# Altium footprint library RPS_ARMOR_PCB_2022_V1.0.PcbLib: 13 footprints
Each footprint in its own frame and in the unit in brackets; x right, y up, seen from the top. Pads: shape width x height; smd on the part's side, far side on the other; paste and mask are expansions set on the pad; w line width, h text height; cw(c..) or ccw(c..) is an arc to the next point about the centre after c.
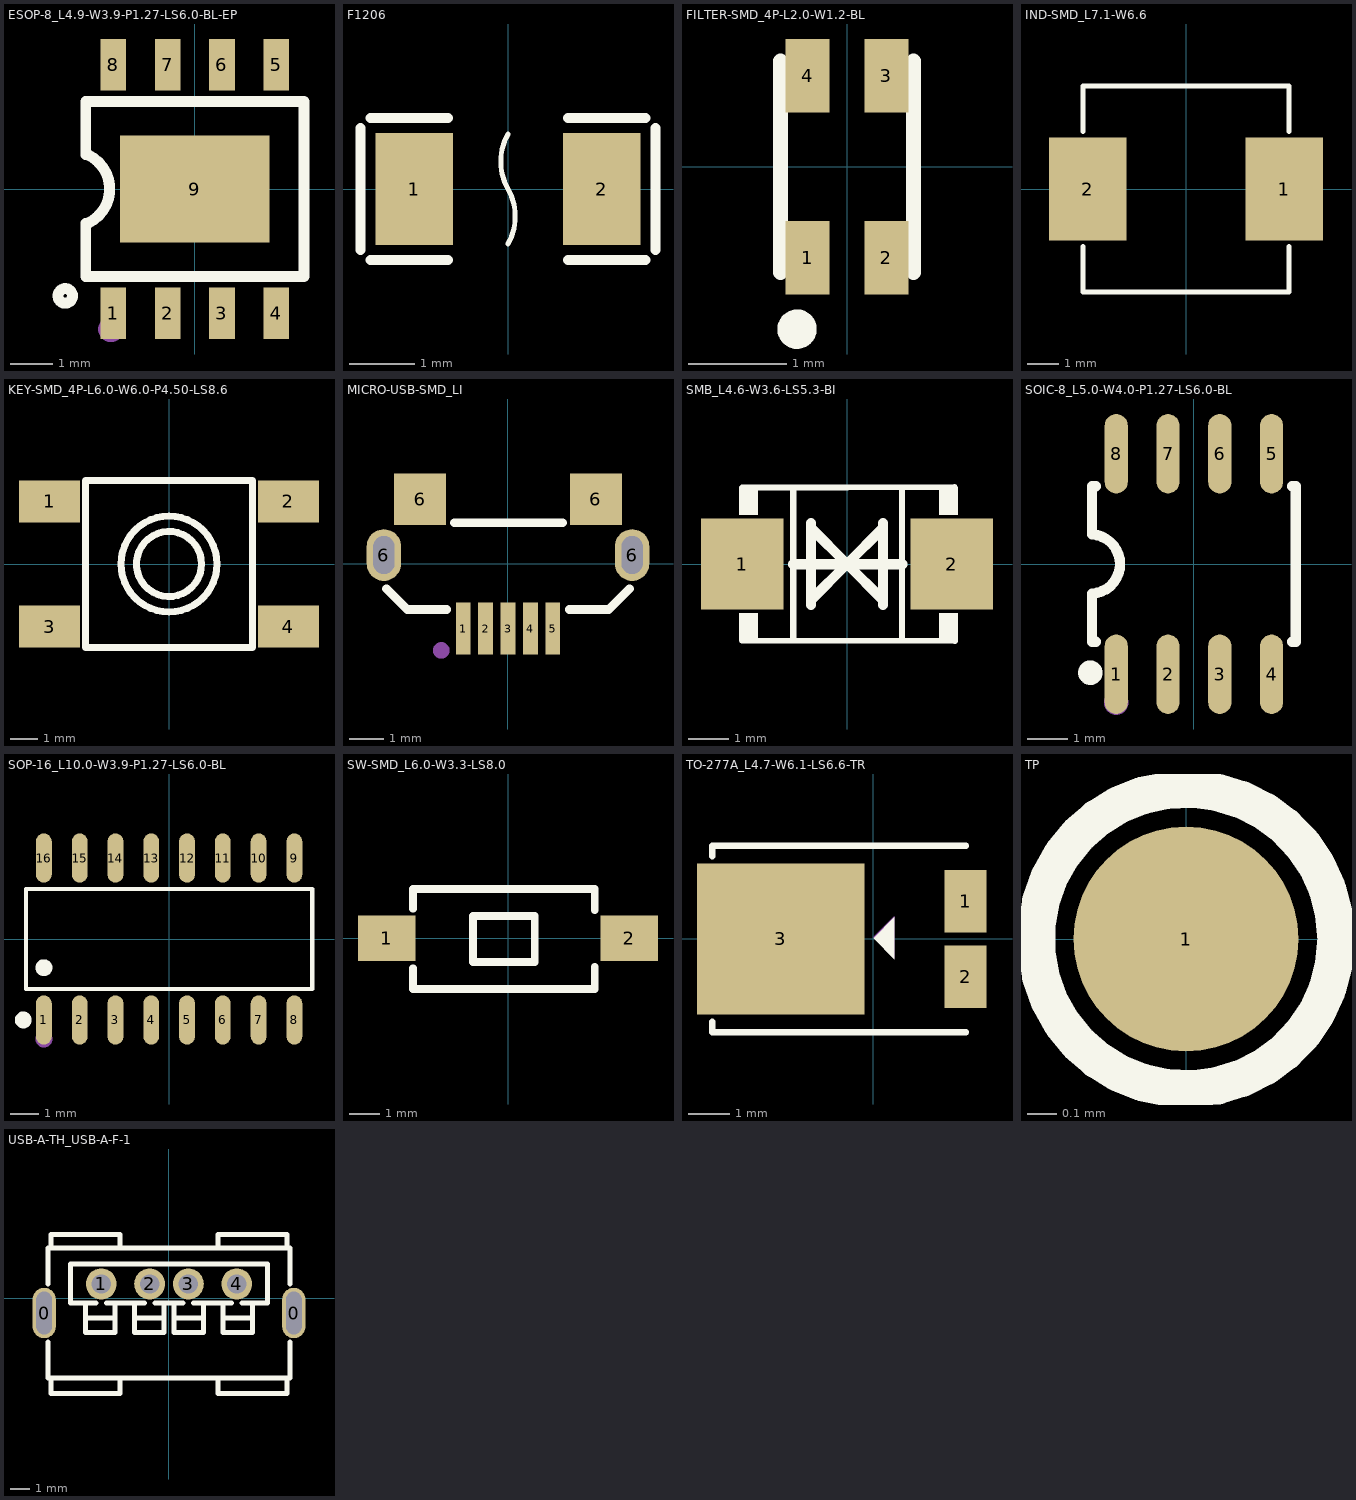
[diagram p0: the footprints below, top view; thin cyan lines are the x and y axes]

## ESOP-8_L4.9-W3.9-P1.27-LS6.0-BL-EP [mm]
pads (9):
  rect 0.6x1.2 smd: 1(-1.905,-2.908) 2(-0.635,-2.908) 3(0.635,-2.908) 4(1.905,-2.908) 5(1.905,2.908) 6(0.635,2.908) 7(-0.635,2.908) 8(-1.905,2.908)
  rect 3.5x2.5 smd: 9(0,0)
Top Overlay:
  circle w0.254: c-3.03,-2.5 r0.17
  lines w0.254: -2.55,-0.8 -2.55,-2.05 2.55,-2.05 2.55,2.05 -2.55,2.05 -2.55,0.8 ; -2.5,-0.8 ccw(c-2.875,0) -2.5,0.8
Mechanical 15:
  circle w0.3: c-1.96,-3.28 r0.15

## F1206 [mm]
pads (2):
  rect 1.19x1.728 smd: 1(-1.445,0) 2(1.445,0)
Top Overlay:
  lines w0.076: 0,-0.845 ccw(c-0.732,-0.422) 0,0 cw(c0.732,0.422) 0,0.845
  lines w0.152: -2.269,-0.94 -2.269,0.94 ; -2.116,-1.093 -0.926,-1.093 ; -2.116,1.093 -0.926,1.093 ; 0.926,-1.093 2.116,-1.093 ; 0.926,1.093 2.116,1.093 ; 2.269,-0.94 2.269,0.94

## FILTER-SMD_4P-L2.0-W1.2-BL [mm]
pads (4):
  rect 0.448x0.75 smd: 1(-0.4,-0.925) 2(0.4,-0.925) 3(0.4,0.925) 4(-0.4,0.925)
Top Overlay:
  circle w0.2: c-0.508,-1.651 r0.1
  lines w0.152: -0.676,-1.076 -0.676,1.076 ; 0.676,-1.076 0.676,1.076

## IND-SMD_L7.1-W6.6 [mm]
pads (2):
  rect 2.474x3.32 smd: 1(3.153,0) 2(-3.153,0)
Top Overlay:
  lines w0.152: -3.302,-1.84 -3.302,-3.302 3.302,-3.302 3.302,-1.84 ; -3.302,1.84 -3.302,3.302 3.302,3.302 3.302,1.84

## KEY-SMD_4P-L6.0-W6.0-P4.50-LS8.6 [mm]
pads (4):
  rect 2.2x1.5 smd: 1(-4.3,2.25) 2(4.3,2.25) 3(-4.3,-2.25) 4(4.3,-2.25)
Top Overlay:
  circle w0.254: c0,0 r1.171
  circle w0.254: c0,0 r1.727
  lines w0.254: -3,-3 -3,3 3,3 3,-3 -3,-3

## MICRO-USB-SMD_LI [mm]
pads (9):
  rect 0.43x1.51 smd: 1(-1.3,-1.877) 2(-0.65,-1.877) 3(0,-1.877) 4(0.65,-1.877) 5(1.3,-1.877)
  oval 1x1.5 hole 0.61 slot 1.1 at 90 deg: 6(-3.6,0.258) 6(3.6,0.258)
  rect 1.5x1.5 smd: 6(-2.55,1.873) 6(2.55,1.878)
Top Overlay:
  lines w0.254: -3.522,-0.719 -2.921,-1.32 -1.781,-1.32 ; -1.559,1.197 1.578,1.197 ; 1.781,-1.32 2.921,-1.32 3.522,-0.719
Top Paste:
  region: 1.8,2.628 3.3,2.628 3.3,1.128 1.8,1.128
  region: -3.3,2.623 -1.8,2.623 -1.8,1.123 -3.3,1.123
  region: 1.05,-1.123 1.55,-1.123 1.55,-2.632 1.05,-2.632
  region: 0.4,-1.123 0.9,-1.123 0.9,-2.632 0.4,-2.632
  region: -0.25,-1.123 0.25,-1.123 0.25,-2.632 -0.25,-2.632
  region: -0.9,-1.123 -0.4,-1.123 -0.4,-2.632 -0.9,-2.632
  region: -1.55,-1.123 -1.05,-1.123 -1.05,-2.632 -1.55,-2.632
  region: 3.1,0.507 3.101,0.606 3.177,0.789 3.318,0.928 3.501,1.004 3.699,1.004 3.882,0.928 4.023,0.789 4.099,0.606 4.1,0.507 4.1,0.007 4.099,-0.092 4.023,-0.274 3.882,-0.414 3.699,-0.489 3.501,-0.489 3.318,-0.414 3.177,-0.274 3.101,-0.092 3.1,0.007
  region: -4.1,0.507 -4.099,0.606 -4.022,0.789 -3.882,0.928 -3.699,1.004 -3.501,1.004 -3.318,0.928 -3.177,0.789 -3.101,0.606 -3.1,0.507 -3.1,0.007 -3.101,-0.092 -3.177,-0.274 -3.318,-0.414 -3.501,-0.489 -3.699,-0.489 -3.882,-0.414 -4.022,-0.274 -4.099,-0.092 -4.1,0.007
Mechanical 15:
  circle w0.24: c-1.935,-2.508 r0.12

## SMB_L4.6-W3.6-LS5.3-BI [mm]
pads (2):
  rect 2.047x2.241 smd: 1(-2.591,0) 2(2.591,0)
Top Overlay:
  region: -2.667,-1.905 -2.667,-1.215 -2.21,-1.215 -2.21,-1.905
  region: -2.667,1.905 -2.667,1.215 -2.21,1.215 -2.21,1.905
  region: 2.286,1.905 2.286,1.215 2.743,1.215 2.743,1.905
  region: 2.286,-1.905 2.286,-1.215 2.743,-1.215 2.743,-1.905
  lines w0.152: -2.599,-1.89 2.667,-1.905 ; -2.591,1.887 2.663,1.905 ; -1.331,-1.886 -1.331,1.886 ; 1.364,-1.886 1.364,1.886
  lines w0.254: -1.331,-0.008 1.364,-0.008 ; 0,0 -0.889,0.889 -0.889,1.016 -0.889,-1.016 -0.889,-0.889 0,0 ; 0,0 0.889,-0.889 0.889,-1.016 0.889,1.016 0.889,0.889 0,0

## SOIC-8_L5.0-W4.0-P1.27-LS6.0-BL [mil]
pads (8):
  oval 22.38x76.78 smd: 1(-75,-106.5) 2(-25,-106.5) 3(25,-106.5) 4(75,-106.5) 5(75,106.5) 6(25,106.5) 7(-25,106.5) 8(-75,106.5)
Top Overlay:
  circle w11.81: c-100,-105 r5.91
  lines w10: -98.43,-28.61 ccw(c-99.99,0) -98.23,28.59 ; -98.42,-28.61 -98.42,-59.05 -98.42,-75 -94.83,-75 ; -98.42,28.59 -98.42,59.05 -98.42,75 -94.83,75 ; 94.83,-75 98.42,-75 98.42,-59.05 98.42,59.05 98.42,75 94.83,75
Mechanical 15:
  circle w11.81: c-75,-133.86 r5.91

## SOP-16_L10.0-W3.9-P1.27-LS6.0-BL [mm]
pads (16):
  oval 0.56x1.745 smd: 1(-4.445,-2.873) 2(-3.175,-2.873) 3(-1.905,-2.873) 4(-0.635,-2.873) 5(0.635,-2.873) 6(1.905,-2.873) 7(3.175,-2.873) 8(4.445,-2.873) 9(4.445,2.873) 10(3.175,2.873) 11(1.905,2.873) 12(0.635,2.873) 13(-0.635,2.873) 14(-1.905,2.873) 15(-3.175,2.873) 16(-4.445,2.873)
Top Overlay:
  circle w0.3: c-4.445,-1.019 r0.15
  circle w0.3: c-5.177,-2.872 r0.15
  lines w0.152: -5.076,-1.771 -5.076,1.771 5.076,1.771 5.076,-1.771 -5.076,-1.771
Mechanical 15:
  circle w0.3: c-4.445,-3.55 r0.15

## SW-SMD_L6.0-W3.3-LS8.0 [mm]
pads (2):
  rect 1.9x1.5 smd: 1(-4,0) 2(4,0)
Top Overlay:
  lines w0.254: -3.137,-0.981 -3.137,-1.668 2.863,-1.668 2.863,-0.935 ; -3.137,0.981 -3.137,1.632 2.863,1.632 2.863,0.935 ; -1.153,-0.78 0.879,-0.78 0.879,0.744 -1.153,0.744 -1.153,-0.78

## TO-277A_L4.7-W6.1-LS6.6-TR [mm]
pads (3):
  rect 1x1.5 smd: 1(2.21,0.9) 2(2.21,-0.9)
  rect 4x3.6 smd: 3(-2.21,0)
Top Overlay:
  region: 0.01,0.02 0.51,0.52 0.51,-0.48
  lines w0.152: -3.844,-1.98 -3.844,-2.229 2.218,-2.229 ; -3.844,1.98 -3.844,2.229 2.218,2.229
Mechanical 15:
  region: 0,0.04 0.5,0.54 0.5,-0.46

## TP [mil]
pads (1):
  round 30 smd: 1(0,0)
Top Overlay:
  circle w5: c0,0 r20

## USB-A-TH_USB-A-F-1 [mm]
pads (6):
  oval 1.2x2.6 hole 0.8 slot 2.2 at 90 deg: 0(-6.45,-0.75) 0(6.45,-0.75)
  round 1.6 hole 1: 1(-3.5,0.75) 2(-1,0.75) 3(1,0.75) 4(3.5,0.75)
Top Overlay:
  lines w0.254: -6.25,-2.257 -6.25,-4.1 6.25,-4.1 6.25,-2.257 ; -6.25,0.757 -6.25,2.6 6.25,2.6 6.25,0.757 ; -6.096,-4.203 -6.096,-4.917 -2.54,-4.917 -2.54,-4.203 ; -6.096,2.6 -6.096,3.314 -2.54,3.314 -2.54,2.6 ; -4.318,-1.004 -2.794,-1.004 ; -4.318,-0.242 -4.318,-1.766 -2.794,-1.766 -2.794,-0.242 ; -3.775,-0.242 -5.08,-0.242 -5.08,1.79 5.08,1.79 5.08,-0.242 4.826,-0.242 3.775,-0.242 ; -3.225,-0.242 -1.275,-0.242 ; -1.778,-1.004 -0.254,-1.004 ; -1.778,-0.242 -1.778,-1.766 -0.254,-1.766 -0.254,-0.242 ; -0.725,-0.242 0.725,-0.242 ; 0.254,-1.004 1.778,-1.004 ; 0.254,-0.242 0.254,-1.766 1.778,-1.766 1.778,-0.242 ; 1.275,-0.242 3.225,-0.242 ; 2.54,-4.203 2.54,-4.917 6.096,-4.917 6.096,-4.203 ; 2.54,2.6 2.54,3.314 6.096,3.314 6.096,2.6 ; 2.794,-1.004 4.318,-1.004 ; 2.794,-0.242 2.794,-1.766 4.318,-1.766 4.318,-0.242